# Altium footprint library Chip_kz85.PcbLib: 312 footprints (part 3 of 20)
Each footprint in its own frame and in the unit in brackets; x right, y up, seen from the top. Pads: shape width x height; smd on the part's side, far side on the other; paste and mask are expansions set on the pad; w line width, h text height; cw(c..) or ccw(c..) is an arc to the next point about the centre after c.
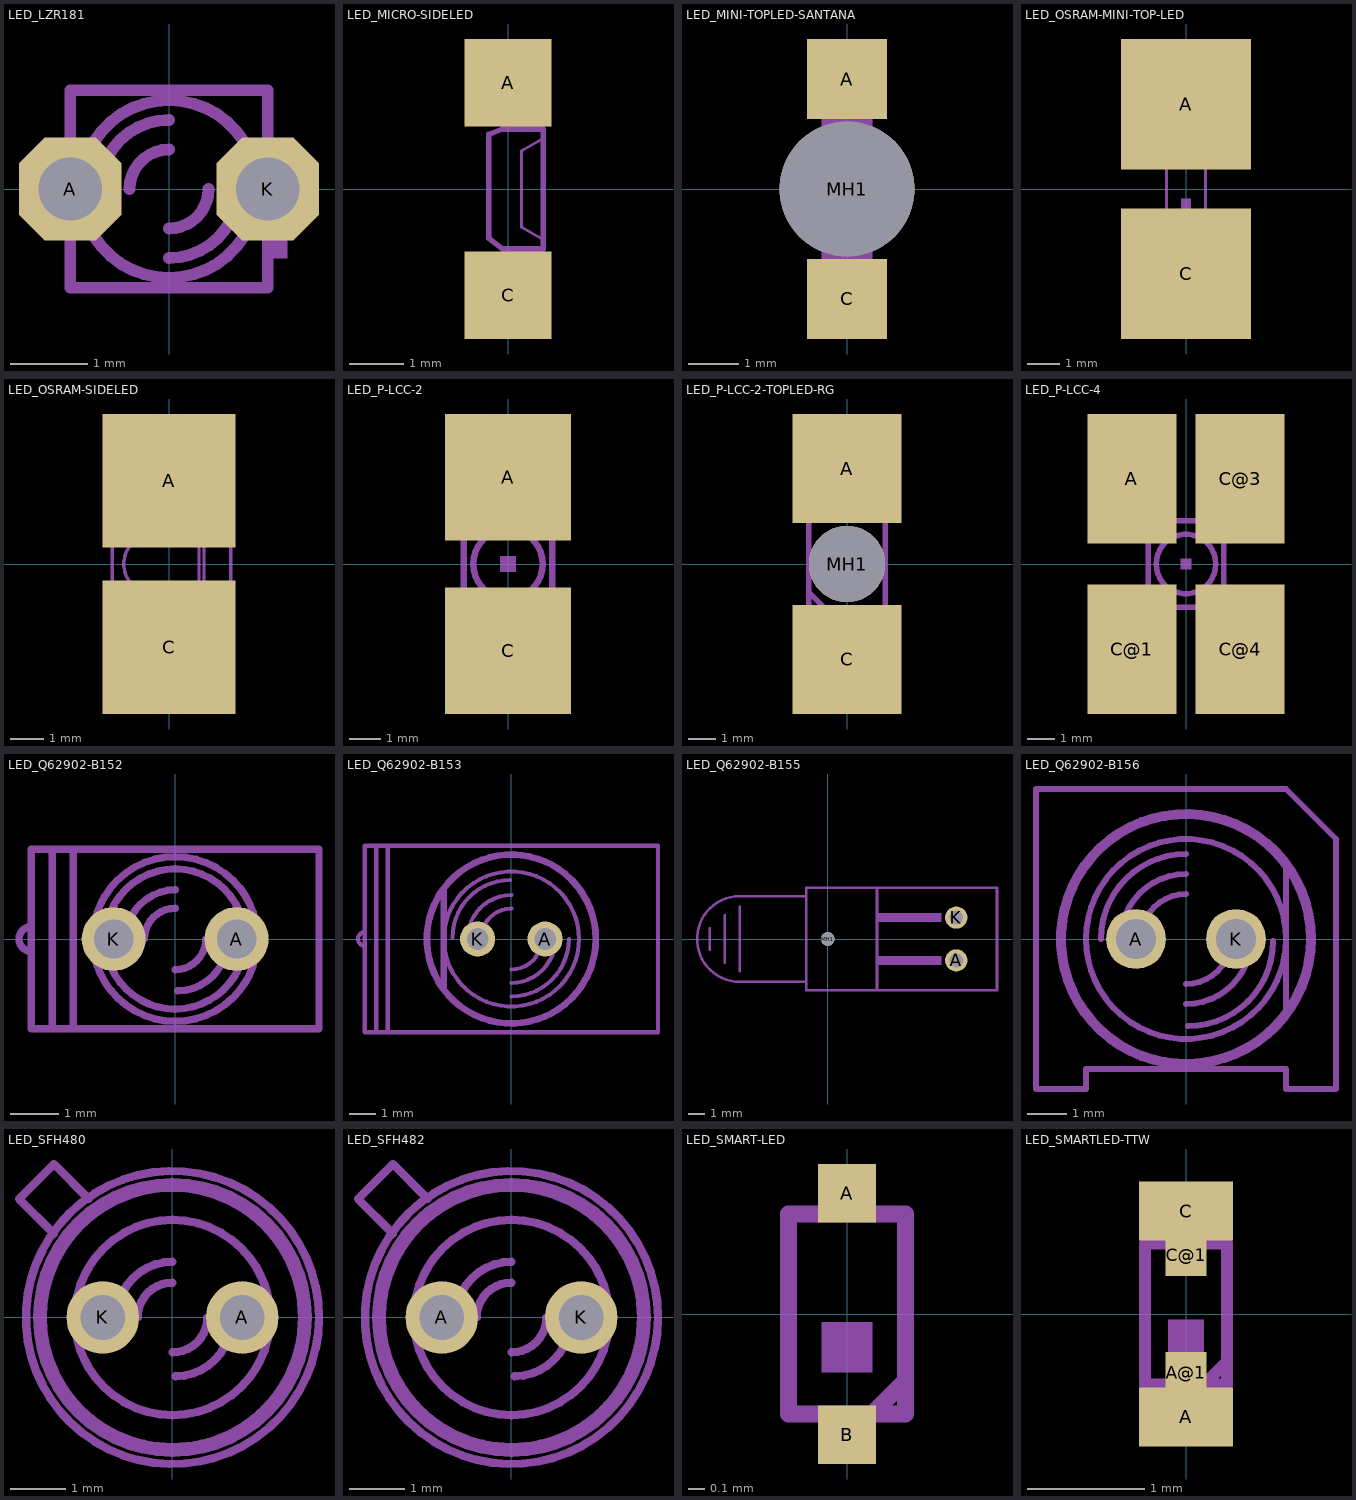
[diagram p2: the footprints below, top view; thin cyan lines are the x and y axes]

## LED_LZR181 [mil]
pads (2):
  oct 52x52 / inner round 48.04 / far side oct 52x52 hole 32: A(-50,0) K(50,0)
Mechanical 3:
  region: -60,-10 -60,10 -50,10 -50,-10
  region: 50,-35 50,10 60,10 60,-35
  lines w6: -50,-35 -50,35 ; -35,0 cw(c0,0) 0,35 ; -34.17,-29.29 cw(c0,-0.01) -45,0 cw(c0,0.01) -34.17,29.29 ; -20,0 cw(c0,0) 0,20 ; 0,-35 ccw(c0,0) 35,0 ; 34.17,-29.29 ccw(c0,-0.01) 45,0 ccw(c0,0.01) 34.17,29.29 ; 50,-35 50,35
Mechanical 7:
  lines w6: -50,-35 -50,-50 50,-50 50,-35 ; -50,35 -50,50 50,50 50,35 ; -34.17,-29.29 ccw(c-0.01,0) 0,-45 ccw(c0.01,0) 34.17,-29.29 ; -34.17,29.29 cw(c-0.01,0) 0,45 cw(c0.01,0) 34.17,29.29 ; 0,-20 ccw(c0,0) 20,0

## LED_MICRO-SIDELED [mil]
pads (2):
  rect 62.99x62.99 smd paste+0 mask+0: A(0,76.77) C(0,-76.77)
Top Paste:
  region: -13.78,45.28 -13.78,68.9 13.78,68.9 13.78,45.28
  region: -13.78,-68.9 -13.78,-45.28 13.78,-45.28 13.78,-68.9
Top Solder:
  region: -15.75,-70.87 -15.75,-43.31 15.75,-43.31 15.75,-70.87
  region: -15.75,43.31 -15.75,70.87 15.75,70.87 15.75,43.31
Mechanical 3:
  region: -4.92,-68.9 -4.92,-44.29 4.92,-44.29 4.92,-68.9
  region: -4.92,44.29 -4.92,68.9 4.92,68.9 4.92,44.29
  lines w4: -13.78,-35.43 -3.94,-43.31 25.59,-43.31 ; -13.78,39.37 -3.94,43.31 25.59,43.31
Mechanical 7:
  lines w2: 23.62,-35.43 9.84,-27.56 9.84,27.56 23.62,35.43
  lines w4: -13.78,-35.43 -13.78,39.37 ; 25.59,-43.31 25.59,43.31

## LED_MINI-TOPLED-SANTANA [mil]
pads (3):
  rect 62.99x62.99 smd paste+0 mask+0: A(0,86.61) C(0,-86.61)
  round 106.3 hole 106.3 unplated: MH1(0,0)
Top Paste:
  region: -19.69,61.02 -19.69,80.71 19.69,80.71 19.69,61.02
  region: -19.69,-80.71 -19.69,-61.02 19.69,-61.02 19.69,-80.71
Top Solder:
  region: -21.65,-82.68 -21.65,-59.06 21.65,-59.06 21.65,-82.68
  region: -21.65,59.06 -21.65,82.68 21.65,82.68 21.65,59.06
Mechanical 3:
  region: -19.69,55.12 -19.69,80.71 19.69,80.71 19.69,55.12
  region: -19.69,-82.68 -19.69,-55.12 19.69,-55.12 19.69,-82.68
Mechanical 7:
  region: -19.69,-55.12 -19.69,-41.34 19.69,-41.34 19.69,-55.12
  region: -19.69,39.37 -19.69,55.12 19.69,55.12 19.69,39.37
  region: -7.87,-15.75 -7.87,-1.97 5.91,-1.97 5.91,-15.75
  lines w4: 13.78,-39.37 27.56,-25.59 ; 13.78,-39.37 -27.56,-39.37 -27.56,39.37 27.56,39.37 27.56,-25.59 ; 13.78,-39.37 27.56,-39.37 27.56,-25.59 ; -17.72,-27.56 -17.72,27.56 17.72,27.56 17.72,-27.56 -17.72,-27.56

## LED_OSRAM-MINI-TOP-LED [mm]
pads (2):
  rect 4x4 smd paste+0 mask+0: A(0,2.6) C(0,-2.6)
Top Paste:
  region: -0.45,-1.35 -0.45,-0.65 0.45,-0.65 0.45,-1.35
  region: -0.45,0.65 -0.45,1.35 0.45,1.35 0.45,0.65
Top Solder:
  region: -0.5,-1.4 -0.5,-0.6 0.5,-0.6 0.5,-1.4
  region: -0.5,0.6 -0.5,1.4 0.5,1.4 0.5,0.6
Mechanical 3:
  region: -0.15,-0.6 -0.15,-0.3 0.15,-0.3 0.15,-0.6
  lines w0.102: -0.45,0.95 -0.45,1.1 0.45,1.1 0.45,0.95 ; 0.45,-0.95 0.45,-1.1 -0.45,-1.1 -0.45,-0.9 -0.4,-0.9 ; -0.4,-0.9 -0.6,-0.7 -0.6,0.9 0.6,0.9 0.6,-0.9 -0.4,-0.9
Mechanical 7:
  text "C" at -0.635,-3.175 h1.97
  text "A" at -0.635,1.905 h1.97

## LED_OSRAM-SIDELED [mm]
pads (2):
  rect 4x4 smd paste+0 mask+0: A(0,2.5) C(0,-2.5)
Top Paste:
  region: -1.9,0.6 -1.9,2.1 1.9,2.1 1.9,0.6
  region: -1.9,-2.1 -1.9,-0.6 1.9,-0.6 1.9,-2.1
Top Solder:
  region: -2.1,0.4 -2.1,2.2 2.1,2.2 2.1,0.4
  region: -2.1,-2.2 -2.1,-0.4 2.1,-0.4 2.1,-2.2
Mechanical 3:
  region: -1.85,-2.05 -1.85,-1 -0.7,-1 -0.7,-2.05
  lines w0.102: 0.85,-1.2 -0.55,-0.9 cw(c-0.45,0) -0.55,0.9 0.85,1.2 ; 0.9,-2.05 1.05,-2.05 ; 0.9,-2.05 -1.85,-2.05 -1.85,-0.75 -1.7,-0.75 -1.7,0.75 -1.85,0.75 -1.85,2.05 0.9,2.05 ; 0.9,-2.05 0.9,2.05 ; 0.9,2.05 1.05,2.05 ; 1.05,-2.05 1.05,2.05 ; 1.05,-2.05 1.85,-1.85 1.85,1.85 1.05,2.05
Mechanical 7:
  text "A" at 0.635,2.54 h1.97
  text "C" at 0.635,-3.175 h1.97

## LED_P-LCC-2 [mm]
pads (2):
  rect 4x4 smd paste+0 mask+0: A(0,2.75) C(0,-2.75)
Top Paste:
  region: -1.3,0.75 -1.3,2.25 1.3,2.25 1.3,0.75
  region: -1.3,-2.25 -1.3,-0.75 1.3,-0.75 1.3,-2.25
Top Solder:
  region: -1.4,-2.35 -1.4,-0.65 1.4,-0.65 1.4,-2.35
  region: -1.4,0.65 -1.4,2.35 1.4,2.35 1.4,0.65
Mechanical 3:
  circle w0.203: c0,0 r1.1
  lines w0.102: -1.1,-1.6 -1.1,-1.8 1.1,-1.8 1.1,-1.6 ; -1.1,1.6 -1.1,1.8 1.1,1.8 1.1,1.6
  lines w0.203: -1.4,-1.05 -1.4,1.6 -1.1,1.6 1.1,1.6 1.4,1.6 1.4,-1.6 1.1,-1.6 -0.85,-1.6 ; -1.4,-1.05 -0.85,-1.6 ; -1.4,-1.05 -1.4,-1.6 -1.1,-1.6 -0.85,-1.6
Mechanical 7:
  region: -0.25,-0.25 -0.25,0.25 0.25,0.25 0.25,-0.25
  text "C" at -0.635,-3.81 h1.97
  text "A" at -0.635,2.54 h1.97

## LED_P-LCC-2-TOPLED-RG [mm]
pads (3):
  rect 4x4 smd paste+0 mask+0: A(0,3.5) C(0,-3.5)
  round 2.8 hole 2.8 unplated: MH1(0,0)
Top Paste:
  region: -1.3,1.5 -1.3,3 1.3,3 1.3,1.5
  region: -1.3,-3 -1.3,-1.5 1.3,-1.5 1.3,-3
Top Solder:
  region: -1.5,-3.2 -1.5,-1.5 1.5,-1.5 1.5,-3.2
  region: -1.5,1.5 -1.5,3.2 1.5,3.2 1.5,1.5
Mechanical 3:
  region: -1.15,-2.7 -1.15,-2.4 1.15,-2.4 1.15,-2.7
  region: -1.15,2.4 -1.15,2.7 1.15,2.7 1.15,2.4
  lines w0.102: -1.1,-2.45 -1.1,-1.6 ; -1.1,1.6 -1.1,2.45 ; 1.1,-2.45 1.1,-1.6 ; 1.1,1.6 1.1,2.45
  lines w0.203: -1.4,-1.05 -1.4,1.6 -1.1,1.6 1.1,1.6 1.4,1.6 1.4,-1.6 1.1,-1.6 -0.85,-1.6 ; -1.4,-1.05 -0.85,-1.6 ; -1.4,-1.05 -1.4,-1.6 -1.1,-1.6 -0.85,-1.6
Mechanical 7:
  circle w0.203: c0,0 r1.1
  region: -0.25,-0.25 -0.25,0.25 0.25,0.25 0.25,-0.25
  text "C" at -0.635,-4.56 h1.97
  text "A" at -0.635,3.29 h1.97

## LED_P-LCC-4 [mm]
pads (4):
  rect 3.3x4.8 smd paste+0 mask+0: A(-2,3.15) C@1(-2,-3.15) C@3(2,3.15) C@4(2,-3.15)
Top Paste:
  region: -1.1,0.8 -1.1,1.8 -0.4,1.8 -0.4,0.8
  region: 0.4,0.8 0.4,1.8 1.1,1.8 1.1,0.8
  region: 0.4,-1.8 0.4,-0.8 1.1,-0.8 1.1,-1.8
  region: -1.1,-1.8 -1.1,-0.8 -0.4,-0.8 -0.4,-1.8
Top Solder:
  region: -1.15,-1.85 -1.15,-0.75 -0.35,-0.75 -0.35,-1.85
  region: 0.35,-1.85 0.35,-0.75 1.15,-0.75 1.15,-1.85
  region: 0.35,0.75 0.35,1.85 1.15,1.85 1.15,0.75
  region: -1.15,0.75 -1.15,1.85 -0.35,1.85 -0.35,0.75
Mechanical 3:
  circle w0.203: c0,0 r1.1
  lines w0.102: -1,-1.6 -1,-1.8 -0.5,-1.8 -0.5,-1.65 ; -1,1.6 -1,1.8 -0.5,1.8 -0.5,1.65 ; 0.5,-1.65 0.5,-1.8 1,-1.8 1,-1.6 ; 0.5,1.65 0.5,1.8 1.1,1.8 1.1,1.6
  lines w0.203: -1.4,-1.05 -1.4,1.6 -1,1.6 1.1,1.6 1.4,1.6 1.4,-1.6 1,-1.6 -0.85,-1.6 ; -1.4,-1.05 -0.85,-1.6 ; -1.4,-1.05 -1.4,-1.6 -1,-1.6 -0.85,-1.6
Mechanical 7:
  region: -0.2,-0.2 -0.2,0.2 0.2,0.2 0.2,-0.2
  text "C" at 1.27,-3.81 h1.97
  text "C" at 1.27,2.54 h1.97
  text "A" at -1.905,2.54 h1.97
  text "C" at -1.905,-3.81 h1.97

## LED_Q62902-B152 [mil]
pads (2):
  round 52 hole 32: A(50,0) K(-50,0)
Mechanical 3:
  lines w6: -57.09,-35.06 cw(c0,0.01) -67,0 cw(c-0.01,0) -56.88,35.41 ; -45.1,34.85 ccw(c-0.01,0) -57,0 ccw(c0,0) -44.51,-35.61 ; -40,0 cw(c0,0) 0,40 ; 0,-25 ccw(c0,0) 25,0 ; 2.12,-42.12 ccw(c2.12,-2.12) 42.12,-2.12 ; 44.41,-35.72 ccw(c0,0.01) 57,0 ccw(c0,0) 44.89,35.13 ; 56.93,-35.33 ccw(c0.01,-0.01) 67,0 ccw(c-0.01,0) 57.17,34.94
Mechanical 7:
  lines w6: -57.55,34.31 cw(c0,0) 0,67 cw(c0,0) 57.77,33.93 ; -57.37,-34.62 ccw(c-0.01,0) 0,-67 ccw(c0.01,0) 57.37,-34.62 ; -45.22,34.7 cw(c0,0) 0,57 cw(c0,0) 45.18,34.75 ; -44.69,-35.38 ccw(c0,0) 0,-57 ccw(c0,0) 44.51,-35.61 ; -25,0 cw(c0,0) 0,25 ; -117,-10 cw(c-117,0) -117,10 ; -117,-10 -117,10 ; -117,-10 -117,-73 -100,-73 ; -117,10 -117,73 -100,73 ; -100,-73 -100,73 ; -100,-73 -83,-73 ; -100,73 -83,73 ; -83,-73 -83,73 ; -83,-73 117,-73 117,73 -83,73

## LED_Q62902-B153 [mil]
pads (2):
  round 52 hole 32: A(50,0) K(-50,0)
Mechanical 3:
  lines w6: -87.12,2.12 cw(c-2.13,2.13) -2.12,87.12 ; -65,0 cw(c0,0) 0,65 ; -45,0 cw(c0,0) 0,45 ; 0,-85 ccw(c0,0) 85,0 ; 0,-65 ccw(c0,0) 65,0 ; 0,-45 ccw(c0,0) 45,0
Mechanical 7:
  circle w10: c0,0 r125
  circle w6: c0,0 r100
  lines w6: -217,-10 cw(c-217,0) -217,10 ; -217,-10 -217,10 ; -217,-10 -217,-138 -200,-138 ; -217,10 -217,138 -200,138 ; -200,-138 -200,138 ; -200,-138 -183,-138 ; -200,138 -183,138 ; -183,-138 -183,138 ; -183,-138 217,-138 217,138 -183,138
  lines w10: -100,-75 -100,75

## LED_Q62902-B155 [mil]
pads (3):
  round 52 hole 32: A(300,-50) K(300,50)
  round 32 hole 32 unplated: MH1(0,0)
Mechanical 7:
  region: 115,-60 115,-40 265,-40 265,-60
  region: 115,40 115,60 265,60 265,40
  lines w6: -275,-25 -275,25 ; -240,-55 -240,55 ; -205,-75 -205,75 ; -50,-100 -50,100 ; -50,-100 -205,-100 cw(c-205,0) -205,100 -50,100 ; -50,-100 -50,-120 115,-120 ; -50,100 -50,120 115,120 ; 115,-120 395,-120 395,120 115,120 ; 115,-120 115,120
  text "K-" at 130,70 h62
  text "A+" at 130,-110 h62

## LED_Q62902-B156 [mil]
pads (2):
  round 60 hole 40: A(-50,0) K(50,0)
Mechanical 3:
  lines w6: -85,0 cw(c0,0) 0,85 ; -65,0 cw(c0,0) 0,65 ; -45,0 cw(c0,0) 0,45 ; 0,-65 ccw(c0,0) 65,0 ; 0,-45 ccw(c0,0) 45,0 ; 2.12,-87.12 ccw(c2.12,-2.12) 87.12,-2.12
Mechanical 7:
  circle w10: c0,0 r125
  circle w6: c0,0 r100
  lines w6: 100,-75 100,75 ; -150,-150 -100,-150 -100,-130 100,-130 100,-150 150,-150 150,100 100,150 -150,150 -150,-150
  text "-" at 110,-130 h62
  text "+" at -140,-130 h62

## LED_SFH480 [mil]
pads (2):
  round 52 hole 32: A(50,0) K(-50,0)
Mechanical 3:
  lines w6: -59.61,-36.69 cw(c0.01,0.01) -70,0 cw(c-0.01,0.01) -59.06,37.58 ; -40,0 cw(c0,0) 0,40 ; -25,0 cw(c0,0) 0,25 ; 0,-25 ccw(c0,0) 25,0 ; 2.12,-42.12 ccw(c2.12,-2.12) 42.12,-2.12 ; 59.06,-37.58 ccw(c0.01,-0.01) 70,0 ccw(c-0.01,-0.01) 59.61,36.69
Mechanical 7:
  circle w10: c0,0 r95
  circle w6: c0,0 r105
  lines w6: -85,60 -110,85 -85,110 -60,85 ; -60.46,-35.27 ccw(c0,0) 0,-70 ccw(c0,0) 60.46,-35.27 ; -60.46,35.27 cw(c0,0) 0,70 cw(c0,0) 60.46,35.27

## LED_SFH482 [mil]
pads (2):
  round 52 hole 32: A(-50,0) K(50,0)
Mechanical 3:
  lines w6: -59.61,-36.69 cw(c0.01,0.01) -70,0 cw(c-0.01,0.01) -59.06,37.58 ; -40,0 cw(c0,0) 0,40 ; -25,0 cw(c0,0) 0,25 ; 0,-25 ccw(c0,0) 25,0 ; 2.12,-42.12 ccw(c2.12,-2.12) 42.12,-2.12 ; 59.06,-37.58 ccw(c0.01,-0.01) 70,0 ccw(c-0.01,-0.01) 59.61,36.69
Mechanical 7:
  circle w10: c0,0 r95
  circle w6: c0,0 r105
  lines w6: -85,60 -110,85 -85,110 -60,85 ; -60.46,-35.27 ccw(c0,0) 0,-70 ccw(c0,0) 60.46,-35.27 ; -60.46,35.27 cw(c0,0) 0,70 cw(c0,0) 60.46,35.27

## LED_SMART-LED [mm]
pads (2):
  rect 0.35x0.35 smd: A(0,0.725) B(0,-0.725)
Mechanical 3:
  region: -0.15,-0.85 -0.15,-0.6 0.15,-0.6 0.15,-0.85
  region: -0.15,0.6 -0.15,0.85 0.15,0.85 0.15,0.6
  lines w0.102: -0.35,-0.6 0.15,-0.6 ; -0.35,0.6 0.35,0.6 ; 0.35,-0.6 0.15,-0.6 ; 0.35,-0.4 0.15,-0.6
Mechanical 7:
  region: -0.15,-0.35 -0.15,-0.05 0.15,-0.05 0.15,-0.35
  lines w0.102: -0.35,-0.6 -0.35,0.6 ; 0.35,-0.6 0.35,0.6

## LED_SMARTLED-TTW [mm]
pads (4):
  rect 0.8x0.5 smd paste+0 mask+0: A(0,-0.875) C(0,0.875)
  rect 0.35x0.35 smd paste+0 mask+0: A@1(0,-0.5) C@1(0,0.5)
Top Paste:
  region: 0.225,-0.3 0.225,-0.975 -0.225,-0.975 -0.225,-0.3
  region: -0.225,0.3 -0.225,0.975 0.225,0.975 0.225,0.3
Top Solder:
  region: 0.175,-0.325 0.175,-0.7 -0.175,-0.7 -0.175,-0.325
  region: -0.175,0.325 -0.175,0.7 0.175,0.7 0.175,0.325
Mechanical 3:
  region: -0.15,-0.85 -0.15,-0.6 0.15,-0.6 0.15,-0.85
  region: -0.15,0.6 -0.15,0.85 0.15,0.85 0.15,0.6
  lines w0.102: -0.35,-0.6 0.15,-0.6 ; -0.35,0.6 0.35,0.6 ; 0.35,-0.6 0.15,-0.6 ; 0.35,-0.4 0.15,-0.6
Mechanical 7:
  region: -0.15,-0.35 -0.15,-0.05 0.15,-0.05 0.15,-0.35
  lines w0.102: -0.35,-0.6 -0.35,0.6 ; 0.35,-0.6 0.35,0.6